# EAGLE library part LM22675 (library JoesCustom)
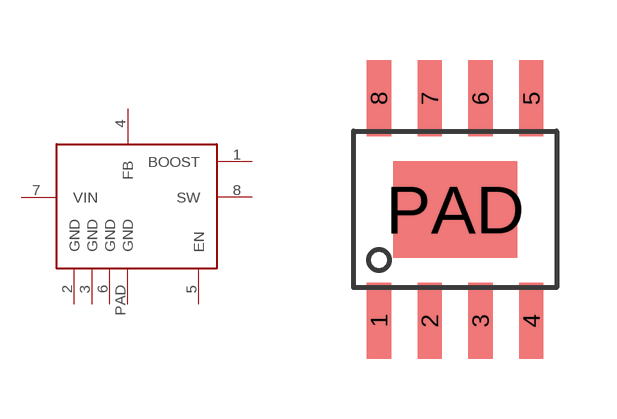
[diagram p10: symbol with the pads of PSOP-8; footprint PSOP-8]

Designator prefix -

## LM22675  [PSOP-8]
1  BOOST
2  GND
3  GND
4  FB
5  EN
6  GND
7  VIN
8  SW
PAD  GND

## Footprint PSOP-8 (pad centres in mm)
smd 0.61 x 1.905: 1 -1.905,-2.781; 2 -0.635,-2.781; 3 0.635,-2.781; 4 1.905,-2.781; 5 1.905,2.781; 6 0.635,2.781; 7 -0.635,2.781; 8 -1.905,2.781
smd 3.099 x 2.413: PAD 0,0